# Altium schematic symbol library HIF3FC-14PA-2P54DS_71_.SchLib: 2 symbols
Pins are listed as number, name and electrical type; pins without a type are passive.

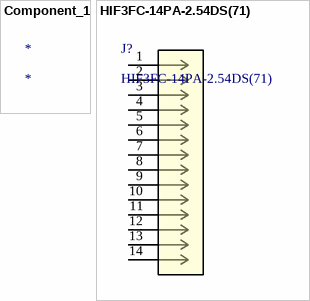
[diagram p0: symbols Component_1 to HIF3FC-14PA-2.54DS(71)]

## Component_1
designator *

## HIF3FC-14PA-2.54DS(71)
designator J?
No Description Available; Mfr_Name: Hirose; Copyright: Copyright (C) 2022 Ultra Librarian. All rights reserved.; Manufacturer_Part_Number: HIF3FC-14PA-2.54DS(71); RefDes: RefDes; Type: DEV
footprint CONN_HIF3FC-14PA-2.54DS(71)_HIR
pins: 1, 2, 3, 4, 5, 6, 7, 8, 9, 10, 11, 12, 13, 14